# Altium footprint library con-amphenol.PCBLIB: 13 footprints
Each footprint in its own frame and in the unit in brackets; x right, y up, seen from the top. Pads: shape width x height; smd on the part's side, far side on the other; paste and mask are expansions set on the pad; w line width, h text height; cw(c..) or ccw(c..) is an arc to the next point about the centre after c.
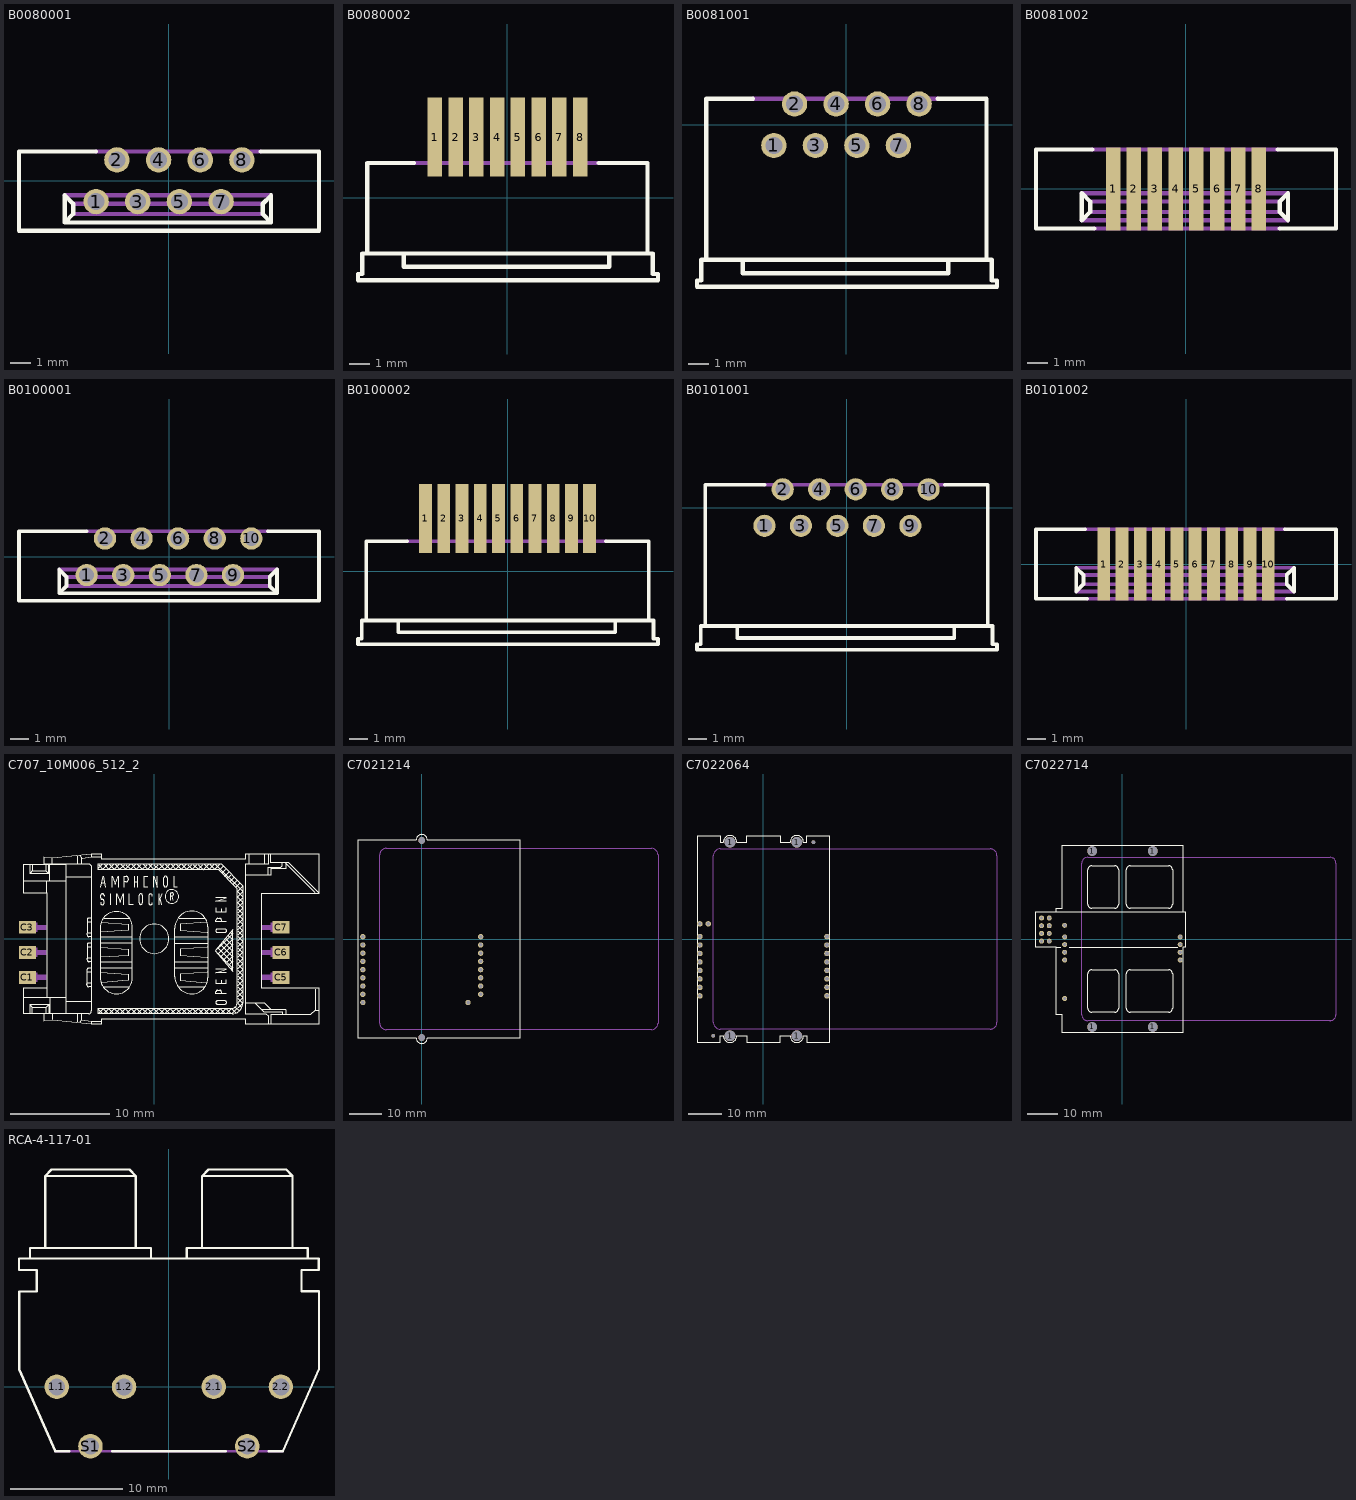
[diagram p0: the footprints below, top view; thin cyan lines are the x and y axes]

## B0080001 [mil]
pads (8):
  round 48 hole 32: 1(-137.8,-39.37) 2(-98.43,39.37) 3(-59.06,-39.37) 4(-19.69,39.37) 5(19.69,-39.37) 6(59.06,39.37) 7(98.43,-39.37) 8(137.8,39.37)
Top Overlay:
  lines w8: -137.8,55.12 -283.46,55.12 -283.46,-94.49 283.46,-94.49 283.46,55.12 173.23,55.12 ; -196.85,-78.74 192.91,-78.74 ; -196.85,-78.74 -196.85,-27.56 -181.1,-43.31 -181.1,-62.99 -196.85,-78.74 ; 192.91,-78.74 192.91,-27.56 177.17,-43.31 177.17,-62.99 192.91,-78.74
Mechanical 16:
  lines w8: -196.85,-27.56 192.91,-27.56 ; -181.1,-62.99 177.17,-62.99 ; -181.1,-43.31 177.17,-43.31 ; -137.8,55.12 173.23,55.12
  text "AMPHENOL C007 10B 008 0001" at -200,0 h24.8

## B0080002 [mm]
pads (8):
  rect 0.7x3.8 smd: 1(-3.5,2.91) 2(-2.5,2.91) 3(-1.5,2.91) 4(-0.5,2.91) 5(0.5,2.91) 6(1.5,2.91) 7(2.5,2.91) 8(3.5,2.91)
Top Overlay:
  lines w0.203: -5,-2.79 -5,-3.34 4.9,-3.34 4.9,-2.79 ; -4.5,1.66 -6.75,1.66 -6.75,-2.69 ; 4.4,1.66 6.75,1.66 6.75,-2.69 ; -6.75,-2.69 -7,-2.69 -7,-3.69 -7.2,-3.69 -7.2,-3.99 7.25,-3.99 7.25,-3.69 7,-3.69 7,-2.69 6.75,-2.69 ; -6.75,-2.69 6.75,-2.69
Mechanical 16:
  lines w0.203: -4.5,1.66 4.4,1.66
  text "AMPHENOL C007 10B 008 0002" at -5.35,-2.54 h0.63

## B0081001 [mil]
pads (8):
  round 48 hole 32: 1(-137.8,-39.37) 2(-98.43,39.37) 3(-59.06,-39.37) 4(-19.69,39.37) 5(19.69,-39.37) 6(59.06,39.37) 7(98.43,-39.37) 8(137.8,39.37)
Top Overlay:
  lines w8: -196.85,-259.84 -196.85,-281.5 192.91,-281.5 192.91,-259.84 ; -177.17,49.21 -265.75,49.21 -265.75,-255.91 ; 173.23,49.21 265.75,49.21 265.75,-255.91 ; -265.75,-255.91 -275.59,-255.91 -275.59,-295.28 -283.46,-295.28 -283.46,-307.09 285.43,-307.09 285.43,-295.28 275.59,-295.28 275.59,-255.91 265.75,-255.91 ; -265.75,-255.91 265.75,-255.91
Mechanical 16:
  lines w8: -177.17,49.21 173.23,49.21
  text "AMPHENOL C007 10B 008 1001" at -250,-100 h24.8

## B0081002 [mm]
pads (8):
  rect 0.7x4 smd: 1(-3.5,0) 2(-2.5,0) 3(-1.5,0) 4(-0.5,0) 5(0.5,0) 6(1.5,0) 7(2.5,0) 8(3.5,0)
Top Overlay:
  lines w0.203: -4.5,1.9 -7.2,1.9 -7.2,-1.9 -4.4,-1.9 ; 4.4,1.9 7.2,1.9 7.2,-1.9 4.5,-1.9 ; -5,-1.5 -5,-0.2 -4.6,-0.6 -4.6,-1.1 -5,-1.5 ; 4.5,-1.1 4.5,-0.6 4.9,-0.2 4.9,-1.5 4.5,-1.1
Mechanical 16:
  lines w0.203: -5,-1.5 4.9,-1.5 ; -5,-0.2 4.9,-0.2 ; -4.6,-1.1 4.5,-1.1 ; -4.6,-0.6 4.5,-0.6 ; -4.5,1.9 4.4,1.9 ; -4.4,-1.9 4.5,-1.9
  text "AMPHENOL C007 10B 008 1002" at -6.62,0.77 h0.63

## B0100001 [mil]
pads (10):
  round 48 hole 32: 1(-177.17,-39.37) 2(-137.8,39.37) 3(-98.43,-39.37) 4(-59.06,39.37) 5(-19.69,-39.37) 6(19.69,39.37) 7(59.06,-39.37) 8(98.43,39.37) 9(137.8,-39.37) 10(177.17,39.37)
Top Overlay:
  lines w8: -177.17,55.12 -322.83,55.12 -322.83,-94.49 322.83,-94.49 322.83,55.12 212.6,55.12 ; -236.22,-78.74 232.28,-78.74 ; -236.22,-78.74 -236.22,-27.56 -220.47,-43.31 -220.47,-62.99 -236.22,-78.74 ; 232.28,-78.74 232.28,-27.56 216.54,-43.31 216.54,-62.99 232.28,-78.74
Mechanical 16:
  lines w8: -236.22,-27.56 232.28,-27.56 ; -220.47,-62.99 216.54,-62.99 ; -220.47,-43.31 216.54,-43.31 ; -177.17,55.12 212.6,55.12
  text "AMPHENOL C007 10B 010 0001" at -250,0 h24.8

## B0100002 [mm]
pads (10):
  rect 0.7x3.8 smd: 1(-4.5,2.91) 2(-3.5,2.91) 3(-2.5,2.91) 4(-1.5,2.91) 5(-0.5,2.91) 6(0.5,2.91) 7(1.5,2.91) 8(2.5,2.91) 9(3.5,2.91) 10(4.5,2.91)
Top Overlay:
  lines w0.203: -6,-2.79 -6,-3.34 5.9,-3.34 5.9,-2.79 ; -5.5,1.66 -7.75,1.66 -7.75,-2.69 ; 5.4,1.66 7.75,1.66 7.75,-2.69 ; -7.75,-2.69 -8,-2.69 -8,-3.69 -8.2,-3.69 -8.2,-3.99 8.25,-3.99 8.25,-3.69 8,-3.69 8,-2.69 7.75,-2.69 ; -7.75,-2.69 7.75,-2.69
Mechanical 16:
  lines w0.203: -5.5,1.66 5.4,1.66
  text "AMPHENOL C007 10B 010 0002" at -6.35,-2.54 h0.63

## B0101001 [mil]
pads (10):
  round 48 hole 32: 1(-177.17,-39.37) 2(-137.8,39.37) 3(-98.43,-39.37) 4(-59.06,39.37) 5(-19.69,-39.37) 6(19.69,39.37) 7(59.06,-39.37) 8(98.43,39.37) 9(137.8,-39.37) 10(177.17,39.37)
Top Overlay:
  lines w8: -236.22,-259.84 -236.22,-281.5 232.28,-281.5 232.28,-259.84 ; -177.17,49.21 -305.12,49.21 -305.12,-255.91 ; 212.6,49.21 305.12,49.21 305.12,-255.91 ; -305.12,-255.91 -314.96,-255.91 -314.96,-295.28 -322.83,-295.28 -322.83,-307.09 324.8,-307.09 324.8,-295.28 314.96,-295.28 314.96,-255.91 305.12,-255.91 ; -305.12,-255.91 305.12,-255.91
Mechanical 16:
  lines w8: -177.17,49.21 212.6,49.21
  text "AMPHENOL C007 10B 010 1001" at -250,0 h24.8

## B0101002 [mm]
pads (10):
  rect 0.7x4 smd: 1(-4.5,0) 2(-3.5,0) 3(-2.5,0) 4(-1.5,0) 5(-0.5,0) 6(0.5,0) 7(1.5,0) 8(2.5,0) 9(3.5,0) 10(4.5,0)
Top Overlay:
  lines w0.203: -5.5,1.9 -8.2,1.9 -8.2,-1.9 -5.4,-1.9 ; 5.4,1.9 8.2,1.9 8.2,-1.9 5.5,-1.9 ; -6,-1.5 -6,-0.2 -5.6,-0.6 -5.6,-1.1 -6,-1.5 ; 5.5,-1.1 5.5,-0.6 5.9,-0.2 5.9,-1.5 5.5,-1.1
Mechanical 16:
  lines w0.203: -6,-1.5 5.9,-1.5 ; -6,-0.2 5.9,-0.2 ; -5.6,-1.1 5.5,-1.1 ; -5.6,-0.6 5.5,-0.6 ; -5.5,1.9 5.4,1.9 ; -5.4,-1.9 5.5,-1.9
  text "AMPHENOL C007 10B 010 1002" at -7.62,0.77 h0.63

## C707_10M006_512_2 [mm]
pads (6):
  rect 1.7x1.3 smd: C1(-12.85,-3.915) C2(-12.85,-1.375) C3(-12.85,1.165) C5(12.85,-3.915) C6(12.85,-1.375) C7(12.85,1.165)
Top Overlay:
  drawing of 504 lines, arcs and shapes, not listed
Mechanical 16:
  rectangle: -11.851,0.909 -10.906,1.418
  rectangle: -13.232,-1.854 -11.815,-0.872
  rectangle: -11.851,-1.636 -10.906,-1.127
  rectangle: -13.232,-4.399 -11.815,-3.417
  rectangle: -11.851,-4.181 -10.906,-3.635
  rectangle: 10.869,-4.181 11.815,-3.635
  rectangle: 11.778,-4.399 13.196,-3.417
  rectangle: 10.869,-1.636 11.815,-1.127
  rectangle: 11.778,-1.854 13.196,-0.872
  rectangle: 10.869,0.909 11.815,1.418
  rectangle: 11.778,0.691 13.196,1.636
  rectangle: -13.232,0.686 -11.815,1.668

## C7021214 [mm]
pads (20):
  round 2.1 hole 2.1: 1(0,-30.45) 1(0,30.45)
  round 1.65 hole 1.1: C1(18.2,-9.46) C2(18.2,-12) C3(18.2,-14.54) C4(18.2,-17.08) C5(-18.2,-9.46) C6(-18.2,-12) C7(-18.2,-14.54) C8(-18.2,-17.08) C_1(-18.2,-6.92) C_2(-18.2,-4.38) C_3(-18.2,-1.84) C_4(-18.2,0.7) C_5(18.2,-6.92) C_6(18.2,-4.38) C_7(18.2,-1.84) C_8(18.2,0.7) S1(14.3,-19.62) S2(-18.2,-19.62)
Top Overlay:
  lines w0.203: 1.7,30.6 ccw(c0,30.6) -1.7,30.6 -19.7,30.6 -19.7,-30.6 -1.7,-30.6 ccw(c0,-30.6) 1.7,-30.6 30.3,-30.6 30.3,30.6 1.7,30.7
Mechanical 16:
  lines w0.051: -13,-26 ccw(c-11,-26) -11,-28 71,-28 ccw(c71,-26) 73,-26 73,26 ccw(c71,26) 71,28 -11,28 ccw(c-11,26) -13,26 -13,-26
  text "C702 10M008 121 4" at 0,-10.16 h1.97

## C7022064 [mm]
pads (24):
  round 1.1 hole 1.1: 1(-15,-29) 1(15,29)
  round 3.2 hole 3.2: 1(-10,-29) 1(-10,29) 1(10,-29) 1(10,29)
  round 1.65 hole 1.1: C1(-19.05,-6.88) C2(-19.05,-4.34) C3(-19.05,-1.8) C4(-19.05,0.74) C5(19.05,-6.88) C6(19.05,-4.34) C7(19.05,-1.8) C8(19.05,0.74) C_1(19.05,-9.42) C_2(19.05,-11.96) C_3(19.05,-14.5) C_4(19.05,-17.04) C_5(-19.05,-9.42) C_6(-19.05,-11.96) C_7(-19.05,-14.5) C_8(-19.05,-17.04) S1(-19.05,4.55) S2(-16.51,4.55)
Top Overlay:
  lines w0.203: -19.9,-30.9 -13,-30.9 -13,-29 -12,-29 ccw(c-10,-29) -8,-29 -5,-29 -5,-31 5,-31 5,-29 8,-29 ccw(c10,-29) 12,-29 13,-29 13,-30.9 19.9,-30.9 19.9,30.9 13,30.9 13,29 12,29 ccw(c10,29) 8,29 5,29 5,31 -5,31 -5,29 -8,29 ccw(c-10,29) -12,29 -13,29 -13,30.9 -19.9,30.9 -19.9,-30.9
Mechanical 16:
  lines w0.051: -15,-25 ccw(c-13,-25) -13,-27 68,-27 ccw(c68,-25) 70,-25 70,25 ccw(c68,25) 68,27 ; -15,25 cw(c-13,25) -13,27
  lines w0.203: -15,-25 -15,25 ; -13,27 68,27
  text "C702 10M008 206 4" at -2,-14 h1.97

## C7022714 [mm]
pads (22):
  round 3.2 hole 3.2: 1(-10,-29) 1(-10,29) 1(10,-29) 1(10,29)
  round 1.65 hole 1.1: C1(-19.05,-6.92) C2(-19.05,-4.38) C3(-19.05,-1.84) C4(-19.05,0.7) C5(19.05,-6.92) C6(19.05,-4.38) C7(19.05,-1.84) C8(19.05,0.7) C_1(-24.13,6.92) C_2(-24.13,4.38) C_3(-24.13,1.84) C_4(-24.13,-0.7) C_5(-26.67,6.92) C_6(-26.67,4.38) C_7(-26.67,1.84) C_8(-26.67,-0.7) S1(-19.05,-19.62) S2(-19.05,4.51)
Top Overlay:
  lines w0.203: -20.3,-2.8 -21.9,-2.8 ; -17.6,-2.8 18.2,-2.8 ; -21.9,-2.8 -21.9,-24.9 -19.9,-24.9 -19.9,-30.9 19.9,-30.9 19.9,-2.8 20.9,-2.8 20.9,9 19.9,9 ; -21.9,-2.8 -28.5,-2.8 -28.5,9 -21.9,9 ; -21.9,9 -21.9,10.1 -19.9,10.1 -19.9,30.9 19.9,30.9 19.9,9 ; -21.9,9 19.9,9 ; -11.43,-22.86 ccw(c-10.16,-22.86) -10.16,-24.13 -2.54,-24.13 ccw(c-2.54,-22.86) -1.27,-22.86 -1.27,-11.43 ccw(c-2.54,-11.43) -2.54,-10.16 -10.16,-10.16 ccw(c-10.16,-11.43) -11.43,-11.43 -11.43,-22.86 ; -11.43,11.43 ccw(c-10.16,11.43) -10.16,10.16 -2.54,10.16 ccw(c-2.54,11.43) -1.27,11.43 -1.27,22.86 ccw(c-2.54,22.86) -2.54,24.13 -10.16,24.13 ccw(c-10.16,22.86) -11.43,22.86 -11.43,11.43 ; 1.27,-22.86 ccw(c2.54,-22.86) 2.54,-24.13 15.24,-24.13 ccw(c15.24,-22.86) 16.51,-22.86 16.51,-11.43 ccw(c15.24,-11.43) 15.24,-10.16 2.54,-10.16 ccw(c2.54,-11.43) 1.27,-11.43 1.27,-22.86 ; 1.27,11.43 ccw(c2.54,11.43) 2.54,10.16 15.24,10.16 ccw(c15.24,11.43) 16.51,11.43 16.51,22.86 ccw(c15.24,22.86) 15.24,24.13 2.54,24.13 ccw(c2.54,22.86) 1.27,22.86 1.27,11.43
Mechanical 16:
  lines w0.051: -13.4,-25 -13.4,25 cw(c-11.497,25) -11.4,26.9 68.5,26.9 cw(c68.5,24.998) 70.4,24.9 ; -13.4,-24.9 ccw(c-11.5,-24.998) -11.5,-26.9 68.6,-26.9 ; 68.4,-26.9 ccw(c68.497,-25) 70.4,-25 ; 70.4,-25.1 70.4,25
  text "AMPHENOL C702 10M008 271 a" at -12,6 h1.97

## RCA-4-117-01 [mil]
pads (6):
  round 86 hole 59.06: 1.1(-393.7,0) 1.2(-157.48,0) 2.1(157.48,0) 2.2(393.7,0) S1(-275.59,-208.66) S2(275.59,-208.66)
Top Overlay:
  lines w8: -350,-225.82 -399.17,-225.82 -525.66,60.91 -525.66,335.45 -463.82,335.45 -463.82,410.41 -526.6,410.41 -526.6,450.7 -488.18,450.7 ; -200,-225.82 200,-225.82 ; 117.13,741.17 139.61,763.66 403.85,763.66 412.28,763.66 434.77,741.17 ; 350,-225.82 401.04,-225.82 527.54,62.78 527.54,336.39 465.69,336.39 465.69,410.41 526.6,410.41 526.6,450.7 488.18,450.7 ; -488.18,450.7 -488.18,488.18 -434.77,488.18 ; -488.18,450.7 -62.78,450.7 ; -434.77,488.18 -434.77,741.17 ; -434.77,488.18 -116.19,488.18 ; -434.77,741.17 -418.84,741.17 -116.19,741.17 ; -434.77,741.17 -412.28,763.66 -147.11,763.66 -138.68,763.66 -116.19,741.17 ; -116.19,488.18 -116.19,741.17 ; -116.19,488.18 -115.25,488.18 ; -116.19,488.18 -115.25,488.18 ; -116.19,488.18 -115.25,488.18 ; -115.25,488.18 -62.78,488.18 -62.78,450.7 ; -62.78,450.7 62.78,450.7 ; -62.78,450.7 62.78,450.7 ; 62.78,450.7 62.78,488.18 116.19,488.18 ; 62.78,450.7 488.18,450.7 ; 116.19,488.18 116.19,741.17 434.77,741.17 ; 116.19,488.18 434.77,488.18 ; 434.77,488.18 434.77,741.17 ; 434.77,488.18 488.18,488.18 488.18,450.7
Mechanical 16:
  lines w8: -399.17,-225.82 401.04,-225.82